# EAGLE library part ADG787 (library analog-devices)
IC MUX/DEMUX DUAL 2X1
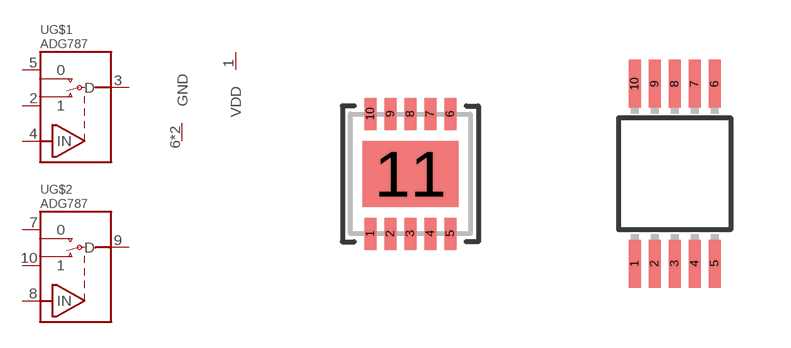
[diagram p67: symbol with the pads of LFCSP10_WD; footprints LFCSP10_WD, MSOP10]

Designator prefix U; gates G$1=ADG787 G$2=ADG787 G$3=GND G$4=VDD

## ADG787LFCSP (DIGIKEY: ADG787BCPZ-500RL7CT-ND; P1I: o)  [LFCSP10_WD]
1  G$4:VDD  pwr
2  G$1:1
3  G$1:D
4  G$1:IN
5  G$1:0
6  G$3:GND  pwr
7  G$2:0
8  G$2:IN
9  G$2:D
10  G$2:1
11  G$3:GND  pwr

## ADG787MSOP (DIGIKEY: ADG787BRMZ-500RL7CT-ND; P1I: o)  [MSOP10]
1  G$4:VDD  pwr
2  G$1:1
3  G$1:D
4  G$1:IN
5  G$1:0
6  G$3:GND  pwr
7  G$2:0
8  G$2:IN
9  G$2:D
10  G$2:1

## Footprint LFCSP10_WD (pad centres in mm)
Lead Frame Chip Scale Package 10-Lead Lead Frame Chip Scale Package [LFCSP_WD]
smd 0.3 x 0.8: 1 -1,-1.5; 2 -0.5,-1.5; 3 0,-1.5; 4 0.5,-1.5; 5 1,-1.5; 6 1,1.5; 7 0.5,1.5; 8 0,1.5; 9 -0.5,1.5; 10 -1,1.5
smd 2.4 x 1.65: 11 0,0

## Footprint MSOP10 (pad centres in mm)
MSOP-10
smd 0.3 x 1.2: 1 -1,-2.25; 2 -0.5,-2.25; 3 0,-2.25; 4 0.5,-2.25; 5 1,-2.25; 6 1,2.25; 7 0.5,2.25; 8 0,2.25; 9 -0.5,2.25; 10 -1,2.25